# Altium footprint library 1807_3PC_Pad.PcbLib: 1 footprints
Each footprint in its own frame and in the unit in brackets; x right, y up, seen from the top. Pads: shape width x height; smd on the part's side, far side on the other; paste and mask are expansions set on the pad; w line width, h text height; cw(c..) or ccw(c..) is an arc to the next point about the centre after c.
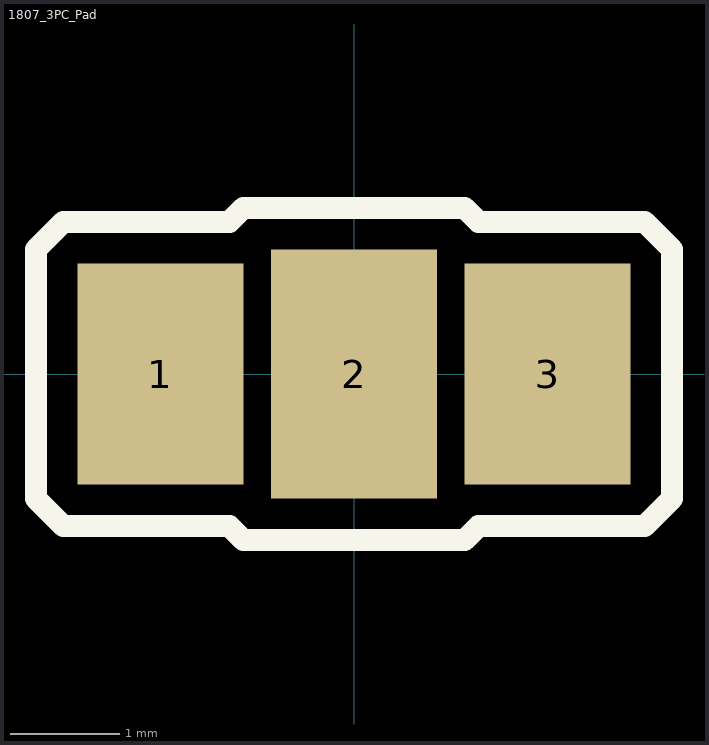
[diagram p0: the footprint, top view; thin cyan lines are the x and y axes]

## 1807_3PC_Pad [mil]
pads (3):
  rect 60x80 smd: 1(-70,0) 3(70,0)
  rect 60x90 smd: 2(0,0)
Top Overlay:
  lines w8: -115,-45 -115,0 -115,45 -105,55 -45,55 -40,60 0,60 40,60 45,55 105,55 115,45 115,0 115,-45 105,-55 45,-55 40,-60 0,-60 -40,-60 -45,-55 -105,-55 -115,-45